# Altium schematic symbol library MergenElektronik_Logics_GateDrivers.SchLib: 1 symbol
Pins are listed as number, name and electrical type; pins without a type are passive.

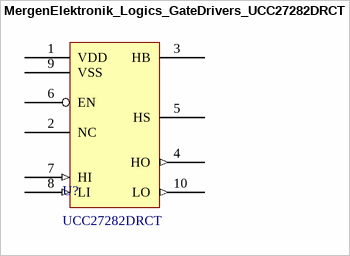
[diagram p0: symbol MergenElektronik_Logics_GateDrivers_UCC27282DRCT]

## MergenElektronik_Logics_GateDrivers_UCC27282DRCT
designator U?, comment UCC27282DRCT
Mergen Elektronik - Logics - Gate Drivers - UCC27282DRCT; Manufacturer: Texas Instruments; Operating Supply Voltage: 5.5V up to 16VDC; Voltage Rated: 120VDC; Current Rating: 3A; Gate Driver Type: Half Bridge; Channel Type: İndependent; Gaye Type: N-Channel MOSFET; Digi-Key Number: 296-53422-1-ND; Manufacturer Number: UCC27282DRCT; Model: Gate Driver; Mounting Type: Surface Mount; Mouser Number: 595-UCC27282DRCT; Package: 10-VSON 3x3; Temperature: -40°C up to 125°C; Value: UCC27282DRCT; Supplier 1: Digikey; Supplier 2: Mouser; Supplier Part Number 1: 296-53422-1-ND; Supplier Part Number 2: 595-UCC27282DRCT
footprint MergenElektronik_Logics_GateDrivers_10VSON (10-VSON 3x3)
pins: 1 VDD (power), 3 HB (power), 4 HO (out), 5 HS (power), 6 EN, 7 HI (in), 8 LI (in), 9 VSS (power), 10 LO (out),  2 NC